# EAGLE library part TSW-S-49 (library con-samtec-tsw)
HEADER
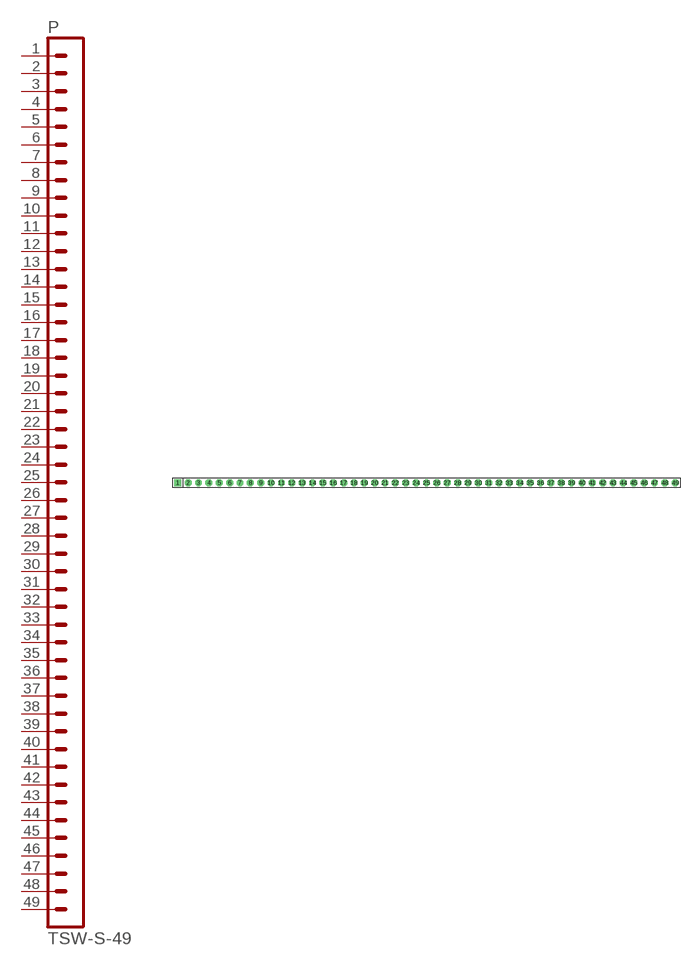
[diagram p43: symbol with the pads of TSW-S-49; footprint TSW-S-49]

Designator prefix P

## TSW-S-49  [TSW-S-49]
1  1  pas
2  2  pas
3  3  pas
4  4  pas
5  5  pas
6  6  pas
7  7  pas
8  8  pas
9  9  pas
10  10  pas
11  11  pas
12  12  pas
13  13  pas
14  14  pas
15  15  pas
16  16  pas
17  17  pas
18  18  pas
19  19  pas
20  20  pas
21  21  pas
22  22  pas
23  23  pas
24  24  pas
25  25  pas
26  26  pas
27  27  pas
28  28  pas
29  29  pas
30  30  pas
31  31  pas
32  32  pas
33  33  pas
34  34  pas
35  35  pas
36  36  pas
37  37  pas
38  38  pas
39  39  pas
40  40  pas
41  41  pas
42  42  pas
43  43  pas
44  44  pas
45  45  pas
46  46  pas
47  47  pas
48  48  pas
49  49  pas

## Footprint TSW-S-49 (pad centres in mm)
HEADER
drill 0.914 pad 1.676 square: 1 -60.96,0
drill 0.914 pad 1.676 octagon: 2 -58.42,0; 3 -55.88,0; 4 -53.34,0; 5 -50.8,0; 6 -48.26,0; 7 -45.72,0; 8 -43.18,0; 9 -40.64,0; 10 -38.1,0; 11 -35.56,0; 12 -33.02,0; 13 -30.48,0; 14 -27.94,0; 15 -25.4,0; 16 -22.86,0; 17 -20.32,0; 18 -17.78,0; 19 -15.24,0; 20 -12.7,0; 21 -10.16,0; 22 -7.62,0; 23 -5.08,0; 24 -2.54,0; 25 0,0; 26 2.54,0; 27 5.08,0; 28 7.62,0; 29 10.16,0; 30 12.7,0; 31 15.24,0; 32 17.78,0; 33 20.32,0; 34 22.86,0; 35 25.4,0; 36 27.94,0; 37 30.48,0; 38 33.02,0; 39 35.56,0; 40 38.1,0; 41 40.64,0; 42 43.18,0; 43 45.72,0; 44 48.26,0; 45 50.8,0; 46 53.34,0; 47 55.88,0; 48 58.42,0; 49 60.96,0